# EAGLE library part IDG-500 (library aspirin)
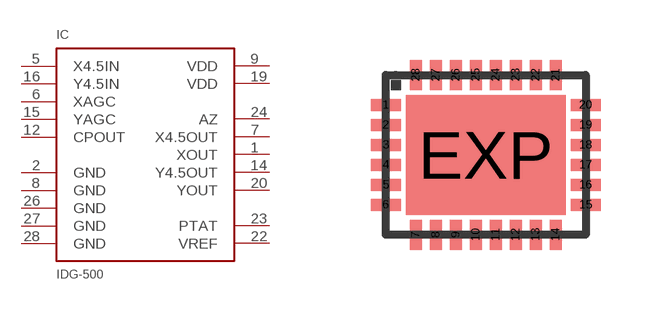
[diagram p2: symbol with the pads of QFN28; footprint QFN28]

Designator prefix IC

## IDG-500  [QFN28]
1  XOUT
2  GND
5  X4.5IN
6  XAGC
7  X4.5OUT
8  GND
9  VDD
12  CPOUT
14  Y4.5OUT
15  YAGC
16  Y4.5IN
19  VDD
20  YOUT
22  VREF
23  PTAT
24  AZ
26  GND
27  GND
28  GND

## Footprint QFN28 (pad centres in mm)
QFN40 7*7*0.9 0.5 P CASE 488AG?01 ISSUE O Source: http://www.onsemi.com/pub_link/Collateral/488AG.PDF
smd 0.75 x 0.3: 1 -2.5,1.25; 2 -2.5,0.75; 3 -2.5,0.25; 4 -2.5,-0.25; 5 -2.5,-0.75; 6 -2.5,-1.25; 15 2.5,-1.25; 16 2.5,-0.75; 17 2.5,-0.25; 18 2.5,0.25; 19 2.5,0.75; 20 2.5,1.25
smd 0.3 x 0.75: 7 -1.75,-2; 8 -1.25,-2; 9 -0.75,-2; 10 -0.25,-2; 11 0.25,-2; 12 0.75,-2; 13 1.25,-2; 14 1.75,-2; 21 1.75,2; 22 1.25,2; 23 0.75,2; 24 0.25,2; 25 -0.25,2; 26 -0.75,2; 27 -1.25,2; 28 -1.75,2
smd 4 x 3: EXP 0,0